# Altium schematic symbol library D_Schottky.SchLib: 1 symbol
Pins are listed as number, name and electrical type; pins without a type are passive.

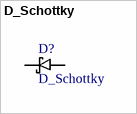
[diagram p0: symbol D_Schottky]

## D_Schottky
designator D?
pins: 1, 2